# Altium schematic symbol library BSS84-7-F.SchLib: 1 symbol
Pins are listed as number, name and electrical type; pins without a type are passive.

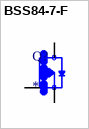
[diagram p0: symbol BSS84-7-F]

## BSS84-7-F
designator Q?
MOSFET P-Channel 50V 0.13A SOT23 | Diodes Inc BSS84-7-F; MF: Diodes Inc.; SnapEDA_Link: https://www.snapeda.com/parts/BSS84-7-F/Diodes+Inc./view-part/?ref=snap; Package: SOT-23 Diodes Inc.; Value: *; MP: BSS84-7-F; Check_prices: https://www.snapeda.com/parts/BSS84-7-F/Diodes+Inc./view-part/?ref=eda
footprint SOT23-R
pins: 1 G, 2 S, 3 D